# Altium footprint library SparkFun-LED.PCBLIB: 45 footprints (part 3 of 3)
Each footprint in its own frame and in the unit in brackets; x right, y up, seen from the top. Pads: shape width x height; smd on the part's side, far side on the other; paste and mask are expansions set on the pad; w line width, h text height; cw(c..) or ccw(c..) is an arc to the next point about the centre after c.
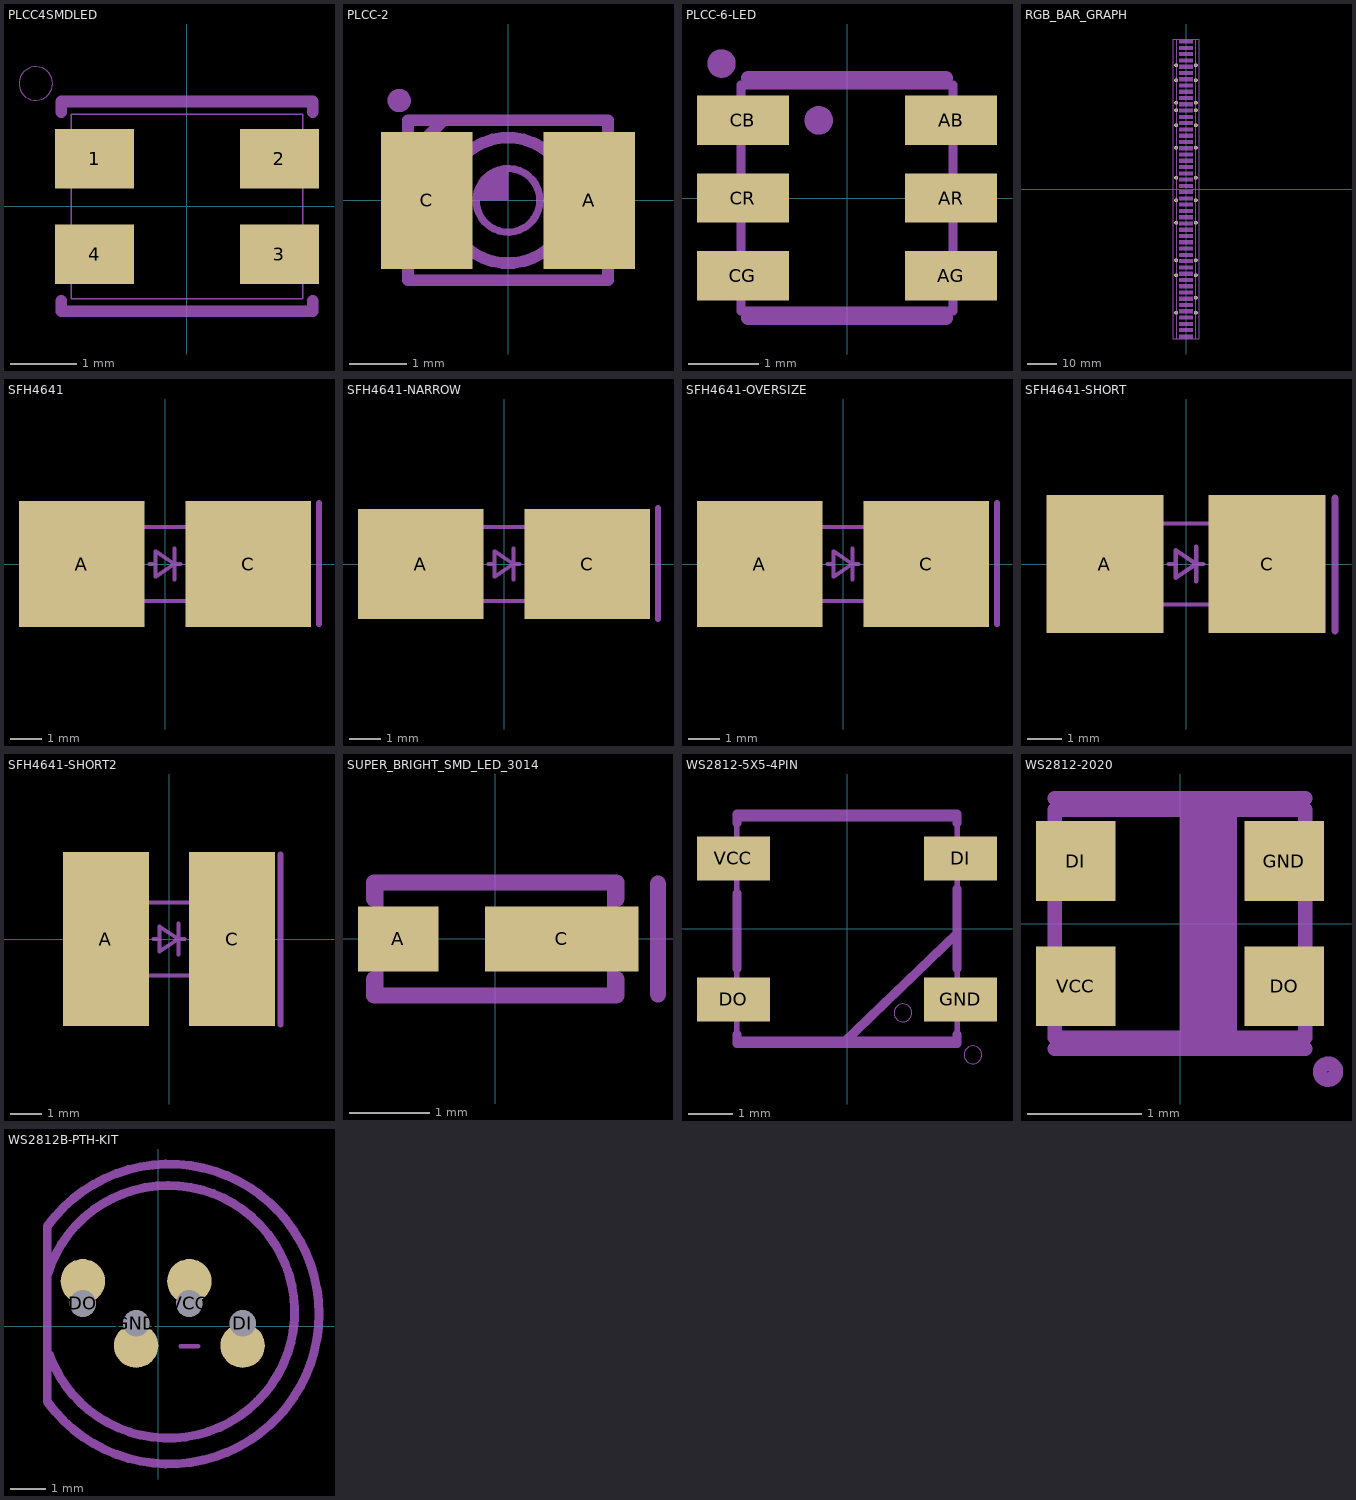
[diagram p2: the footprints below, top view; thin cyan lines are the x and y axes]

## PLCC4SMDLED [mil]
pads (4):
  rect 47.24x35.43 smd: 1(-55.12,28.54) 2(55.12,28.54) 3(55.12,-28.54) 4(-55.12,-28.54)
tDocu:
  lines w1: -69,-55 69,-55 69,55 -69,55 -69,-55
tPlace:
  circle w0: c-90.15,73.29 r10
  lines w7: -75,-56.25 -75,-62.5 75,-62.5 75,-56.25 ; -75,56.25 -75,62.5 75,62.5 75,56.25

## PLCC-2 [mil]
pads (2):
  rect 62.99x94.49 smd: A(56.1,0) C(-56.1,0)
tDocu:
  circle w8: c0,0 r43.31
  lines w8: -67.57,31.88 -45.91,53.54 ; -68.9,-55.12 -68.9,55.12 68.9,55.12 68.9,-55.12 -68.9,-55.12
tPlace:
  circle w5: c0,0 r21.95
  circle w12: c-75,68.75 r2
  region: 0,0 0,22 -4.38,22 -12.46,18.65 -18.65,12.46 -22,4.38 -22,0
  lines w8: -66.93,-55.12 66.93,-55.12 ; -66.93,55.12 66.93,55.12

## PLCC-6-LED [mil]
pads (6):
  rect 51.18x27.56 smd: AB(58.07,43.31) AG(58.07,-43.31) AR(58.07,0) CB(-58.07,43.31) CG(-58.07,-43.31) CR(-58.07,0)
tDocu:
  circle w0: c-51.18,51.18 r3.94
  lines w5: -59.06,-62.99 59.06,-62.99 59.06,62.99 -59.06,62.99 -59.06,-62.99
tPlace:
  circle w8: c-15.75,43.31 r3.94
  circle w8: c-70,75 r3.94
  lines w8: -55.12,-66.93 55.12,-66.93 ; -55.12,66.93 55.12,66.93

## RGB_BAR_GRAPH [mil]
pads (25):
  round 51.5 hole 31.5: 1(132.28,-1649.61) 2(132.28,-1449.61) 3(132.28,-1149.61) 4(132.28,-949.61) 5(132.28,-449.61) 6(132.28,-149.61) 7(132.28,150.39) 8(132.28,550.39) 9(132.28,850.39) 10(132.28,1050.39) 11(132.28,1150.39) 12(132.28,1450.39) 13(132.28,1650.39) 14(-132.28,1650.39) 15(-132.28,1450.39) 16(-132.28,1150.39) 17(-132.28,1050.39) 18(-132.28,850.39) 19(-132.28,550.39) 20(-132.28,150.39) 21(-132.28,-149.61) 22(-132.28,-449.61) 23(-132.28,-949.61) 24(-132.28,-1149.61) 25(-132.28,-1649.61)
Dimension:
  lines w5: -167.32,-2000 167.32,-2000 167.32,2000 -167.32,2000 -167.32,-2000
tDocu:
  text "1" at 115,-1990 h77.5
  text "2" at 115,-1905 h77.5
  text "3" at 115,-1825 h77.5
  text "Segment" at -110,-1985 h77.5
tPlace:
  drawing of 50 lines, arcs and shapes, not listed
  text "+" at -129.92,-1497.05 h122.05

## SFH4641 [mm]
pads (2):
  rect 4x4 smd paste+0 mask+0: A(-2.65,0) C(2.65,0)
Top Paste:
  region: 0.65,1.2 2,1.2 2,-1.2 0.65,-1.2
  region: -0.65,-1.2 -2,-1.2 -2,1.2 -0.65,1.2
Top Solder:
  region: 0.65,1.2 2,1.2 2,-1.2 0.65,-1.2
  region: -0.65,-1.2 -2,-1.2 -2,1.2 -0.65,1.2
tDocu:
  lines w0.127: -0.5,0 -0.3,0 ; 0.3,-0.5 0.3,0 ; 0.3,0.5 0.3,0 ; 0.5,0 0.3,0 ; -0.3,0 -0.3,0.4 0.3,0 ; -0.3,0 -0.3,-0.4 0.3,0 ; -1.65,-1.175 -1.65,1.175 1.65,1.175 1.65,-1.175 -1.65,-1.175
tPlace:
  lines w0.203: 4.904,-1.905 4.904,1.929

## SFH4641-NARROW [mm]
pads (2):
  rect 4x3.5 smd paste+0 mask+0: A(-2.65,0) C(2.65,0)
Top Paste:
  region: 0.65,1.2 2,1.2 2,-1.2 0.65,-1.2
  region: -0.65,-1.2 -2,-1.2 -2,1.2 -0.65,1.2
Top Solder:
  region: 0.65,1.2 2,1.2 2,-1.2 0.65,-1.2
  region: -0.65,-1.2 -2,-1.2 -2,1.2 -0.65,1.2
tDocu:
  lines w0.127: -0.5,0 -0.3,0 ; 0.3,-0.5 0.3,0 ; 0.3,0.5 0.3,0 ; 0.5,0 0.3,0 ; -0.3,0 -0.3,0.4 0.3,0 ; -0.3,0 -0.3,-0.4 0.3,0 ; -1.65,-1.175 -1.65,1.175 1.65,1.175 1.65,-1.175 -1.65,-1.175
tPlace:
  lines w0.203: 4.904,-1.746 4.904,1.77

## SFH4641-OVERSIZE [mm]
pads (2):
  rect 4x4 smd paste+0 mask+0: A(-2.65,0) C(2.65,0)
Top Paste:
  region: 0.65,1.4 2.2,1.4 2.2,-1.4 0.65,-1.4
  region: -2.2,1.4 -0.65,1.4 -0.65,-1.4 -2.2,-1.4
Top Solder:
  region: 0.65,1.4 2.2,1.4 2.2,-1.4 0.65,-1.4
  region: -2.2,1.4 -0.65,1.4 -0.65,-1.4 -2.2,-1.4
tDocu:
  lines w0.127: -0.5,0 -0.3,0 ; 0.3,-0.5 0.3,0 ; 0.3,0.5 0.3,0 ; 0.5,0 0.3,0 ; -0.3,0 -0.3,0.4 0.3,0 ; -0.3,0 -0.3,-0.4 0.3,0 ; -1.65,-1.175 -1.65,1.175 1.65,1.175 1.65,-1.175 -1.65,-1.175
tPlace:
  lines w0.203: 4.904,-1.905 4.904,1.929

## SFH4641-SHORT [mm]
pads (2):
  rect 3.4x4 smd paste+0 mask+0: A(-2.35,0) C(2.35,0)
Top Paste:
  region: 0.65,1.2 2,1.2 2,-1.2 0.65,-1.2
  region: -0.65,-1.2 -2,-1.2 -2,1.2 -0.65,1.2
Top Solder:
  region: 0.65,1.2 2,1.2 2,-1.2 0.65,-1.2
  region: -0.65,-1.2 -2,-1.2 -2,1.2 -0.65,1.2
tDocu:
  lines w0.127: -0.5,0 -0.3,0 ; 0.3,-0.5 0.3,0 ; 0.3,0.5 0.3,0 ; 0.5,0 0.3,0 ; -0.3,0 -0.3,0.4 0.3,0 ; -0.3,0 -0.3,-0.4 0.3,0 ; -1.65,-1.175 -1.65,1.175 1.65,1.175 1.65,-1.175 -1.65,-1.175
tPlace:
  lines w0.203: 4.316,-1.937 4.316,1.913

## SFH4641-SHORT2 [mm]
pads (2):
  rect 2.77x5.62 smd paste+0 mask+0: A(-2.035,0) C(2.035,0)
Top Paste:
  region: 0.65,1.4 2.2,1.4 2.2,-1.4 0.65,-1.4
  region: -2.2,1.4 -0.65,1.4 -0.65,-1.4 -2.2,-1.4
Top Solder:
  region: 0.65,1.4 2.2,1.4 2.2,-1.4 0.65,-1.4
  region: -2.2,1.4 -0.65,1.4 -0.65,-1.4 -2.2,-1.4
tDocu:
  lines w0.127: -0.5,0 -0.3,0 ; 0.3,-0.5 0.3,0 ; 0.3,0.5 0.3,0 ; 0.5,0 0.3,0 ; -0.3,0 -0.3,0.4 0.3,0 ; -0.3,0 -0.3,-0.4 0.3,0 ; -1.65,-1.175 -1.65,1.175 1.65,1.175 1.65,-1.175 -1.65,-1.175
tPlace:
  lines w0.203: 3.602,-2.762 3.602,2.723

## SUPER_BRIGHT_SMD_LED_3014 [mil]
pads (2):
  rect 39.37x31.5 smd paste+0: A(-47.24,0)
  rect 74.8x31.5 smd paste+0: C(32.56,0)
Top Paste:
  region: -59.06,-11.81 -59.06,11.81 -35.43,11.81 -35.43,-11.81
  region: 0,-11.81 0,11.81 23.62,11.81 23.62,-11.81
  region: 39.37,-11.81 39.37,11.81 62.99,11.81 62.99,-11.81
tDocu:
  region: -2.95,-13.78 -2.95,13.78 65.94,13.78 65.94,-13.78
  region: -63.98,-13.78 -63.98,13.78 -30.51,13.78 -30.51,-13.78
  lines w5: -57.09,-27.56 57.09,-27.56 57.09,27.56 -57.09,27.56 -57.09,-27.56
tPlace:
  lines w8: -59.06,-19.69 -59.06,-27.56 59.06,-27.56 59.06,-19.69 ; -59.06,19.69 -59.06,27.56 59.06,27.56 59.06,19.69 ; 79.49,-26.87 79.49,26.87

## WS2812-5X5-4PIN [mil]
pads (4):
  rect 65x39.37 smd: DI(101.46,62.99) DO(-101.46,-62.99) GND(101.46,-62.99) VCC(-101.46,62.99)
tDocu:
  circle w0: c50,-75 r8
  lines w5: -98.43,-98.43 -98.43,98.43 98.43,98.43 98.43,-98.43 -98.43,-98.43
tPlace:
  circle w0: c112.5,-112.5 r8
  lines w8: -98.43,-94.49 -98.43,-102.36 ; -98.43,-35.43 -98.43,31.5 ; -98.43,94.49 -98.43,102.36 98.43,102.36 98.43,94.49 ; -96.8,-102 -98.43,-102.36 ; -3.94,-102.36 98.43,-3.94 ; 98.43,-94.49 98.43,-102.36 -98.43,-102.36 ; 98.43,-35.43 98.43,-3.94 ; 98.43,35.43 98.43,-3.94

## WS2812-2020 [mil]
pads (4):
  rect 27.56x27.56 smd: DI(-36.02,21.65) DO(36.02,-21.65) GND(36.02,21.65) VCC(-36.02,-21.65)
tDocu:
  region: 0,-39.37 0,39.37 19.69,39.37 19.69,-39.37
  lines w5: -43.31,-39.37 -43.31,39.37 43.31,39.37 43.31,-39.37 -43.31,-39.37
tPlace:
  circle w5: c51.18,-51.18 r2.76
  lines w5: -43.31,-43.31 43.31,-43.31 ; -43.31,-3.94 -43.31,3.94 ; -43.31,43.31 43.31,43.31 ; 43.31,-3.94 43.31,3.94

## WS2812B-PTH-KIT [mil]
pads (4):
  round 50 hole 30 copper offset 0,-25: DI(95,3.13) GND(-25,3.13)
  round 50 hole 30 copper offset 0,25: DO(-85,25.63) VCC(35,25.63)
Top Solder:
  region: -85,7.5 -88.4,7.42 -94.75,9.88 -99.67,14.57 -102.42,20.8 -102.5,24.2 -102.59,27.77 -100.02,34.44 -95.1,39.61 -88.57,42.51 -85,42.6 -81.48,42.54 -75.02,39.74 -70.12,34.67 -67.54,28.12 -67.6,24.6 -67.63,21.17 -70.31,14.85 -75.21,10.04 -81.57,7.47 -85,7.5
  region: 35,7.5 31.6,7.42 25.25,9.88 20.33,14.57 17.58,20.8 17.5,24.2 17.41,27.77 19.98,34.44 24.9,39.61 31.43,42.51 35,42.6 38.52,42.54 44.98,39.74 49.88,34.67 52.46,28.12 52.4,24.6 52.37,21.17 49.69,14.85 44.79,10.04 38.43,7.47 35,7.5
  region: -25,-15 -28.4,-15.08 -34.75,-12.62 -39.67,-7.93 -42.42,-1.7 -42.5,1.7 -42.59,5.27 -40.02,11.94 -35.1,17.11 -28.57,20.01 -25,20.1 -21.48,20.04 -15.02,17.24 -10.12,12.17 -7.54,5.62 -7.6,2.1 -7.63,-1.33 -10.31,-7.65 -15.21,-12.46 -21.57,-15.03 -25,-15
  region: 95,-15 91.6,-15.08 85.25,-12.62 80.33,-7.93 77.58,-1.7 77.5,1.7 77.41,5.27 79.98,11.94 84.9,17.11 91.43,20.01 95,20.1 98.52,20.04 104.98,17.24 109.88,12.17 112.46,5.62 112.4,2.1 112.37,-1.33 109.69,-7.65 104.79,-12.46 98.43,-15.03 95,-15
Bottom Solder:
  region: -109,26 -109,77 -109,81.38 -105.65,89.46 -99.46,95.65 -91.38,99 -87,99 -85,99 -80.23,99 -71.41,95.35 -64.65,88.59 -61,79.77 -61,75 -61,26 -61,21.23 -64.65,12.4 -71.41,5.65 -80.23,2 -85,2 -89.77,2 -98.59,5.65 -105.35,12.4 -109,21.23 -109,26
  region: -49,-47 -49,4 -49,8.38 -45.65,16.46 -39.46,22.65 -31.38,26 -27,26 -25,26 -20.23,26 -11.4,22.35 -4.65,15.59 -1,6.77 -1,2 -1,-47 -1,-51.77 -4.65,-60.59 -11.4,-67.35 -20.23,-71 -25,-71 -29.77,-71 -38.59,-67.35 -45.35,-60.59 -49,-51.77 -49,-47
  region: 11,26 11,77 11,81.38 14.35,89.46 20.54,95.65 28.62,99 33,99 35,99 39.77,99 48.59,95.35 55.35,88.59 59,79.77 59,75 59,26 59,21.23 55.35,12.4 48.59,5.65 39.77,2 35,2 30.23,2 21.41,5.65 14.65,12.4 11,21.23 11,26
  region: 71,-46 71,5 71,9.38 74.35,17.46 80.54,23.65 88.62,27 93,27 95,27 99.77,27 108.59,23.35 115.35,16.59 119,7.77 119,3 119,-46 119,-50.77 115.35,-59.59 108.59,-66.35 99.77,-70 95,-70 90.23,-70 81.41,-66.35 74.65,-59.59 71,-50.77 71,-46
tPlace:
  lines w5: 25,-22.5 45,-22.5
  lines w10: -122.5,-32.5 ccw(c11.23,16.25) -125,57.5 ; -125,57.5 -125,112.5 cw(c12.08,13.75) -125,-85 -125,57.5
  text "+" at -37,37 h49.6